# Altium footprint library Altium_Opto.PcbLib: 3 footprints
Each footprint in its own frame and in the unit in brackets; x right, y up, seen from the top. Pads: shape width x height; smd on the part's side, far side on the other; paste and mask are expansions set on the pad; w line width, h text height; cw(c..) or ccw(c..) is an arc to the next point about the centre after c.
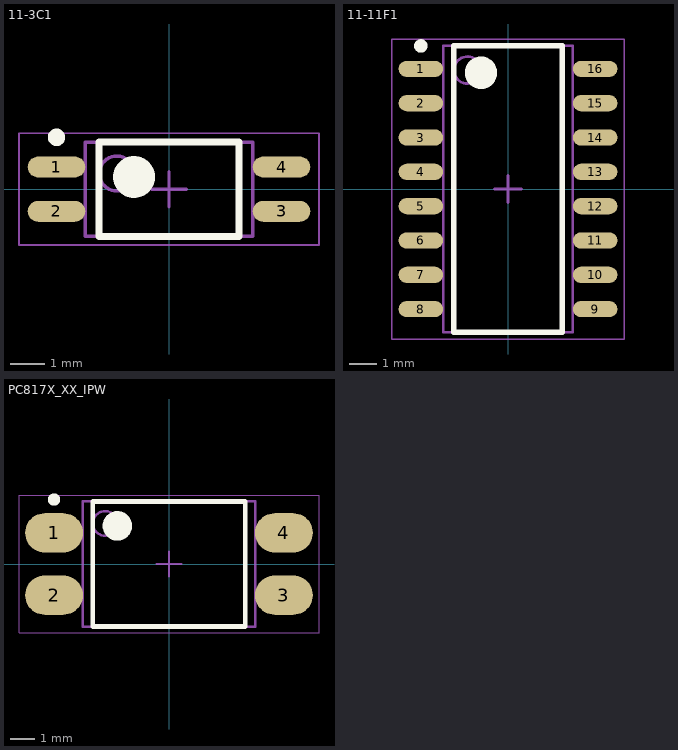
[diagram p0: the footprints below, top view; thin cyan lines are the x and y axes]

## 11-3C1 [mm] "SOIC, 4-Leads, Body 2.60x4.60mm, Pitch 1.27mm, IPC Medium Density"
height 2.2
pads (4):
  oval 1.65x0.6 smd: 1(-3.225,0.635) 2(-3.225,-0.635) 3(3.225,-0.635) 4(3.225,0.635)
Top Overlay:
  circle w0.6: c-1,0.35 r0.3
  circle w0.25: c-3.225,1.485 r0.125
  lines w0.2: -2,-1.35 2,-1.35 2,1.35 -2,1.35 -2,-1.35
Top Designator:
  text ".Designator" at -5.998,-0.4 h1.2
Mechanical 13:
  circle w0.1: c-1.5,0.45 r0.5
  lines w0.1: -2.4,-1.35 2.4,-1.35 2.4,1.35 -2.4,1.35 -2.4,-1.35
Mechanical 15:
  lines w0.05: -4.3,-1.6 4.3,-1.6 4.3,1.6 -4.3,1.6 -4.3,-1.6
  lines w0.1: -0.5,0 0.5,0 ; 0,-0.5 0,0.5
3D body "SOIC127P700X220-4N.step": height 2.2, standoff 0, extent -3.5,-1.35 3.5,1.35

## 11-11F1 [mm] "SOIC, 16-Leads, Body 10.35x4.55mm, Pitch 1.27mm, IPC Medium Density"
height 2.2
pads (16):
  oval 1.65x0.6 smd: 1(-3.225,4.445) 2(-3.225,3.175) 3(-3.225,1.905) 4(-3.225,0.635) 5(-3.225,-0.635) 6(-3.225,-1.905) 7(-3.225,-3.175) 8(-3.225,-4.445) 9(3.225,-4.445) 10(3.225,-3.175) 11(3.225,-1.905) 12(3.225,-0.635) 13(3.225,0.635) 14(3.225,1.905) 15(3.225,3.175) 16(3.225,4.445)
Top Overlay:
  circle w0.6: c-1,4.3 r0.3
  circle w0.25: c-3.225,5.295 r0.125
  lines w0.2: -2,-5.3 2,-5.3 2,5.3 -2,5.3 -2,-5.3
Mechanical 13:
  circle w0.1: c-1.5,4.4 r0.5
  lines w0.1: -2.4,-5.3 2.4,-5.3 2.4,5.3 -2.4,5.3 -2.4,-5.3
Mechanical 15:
  lines w0.05: -4.3,-5.55 4.3,-5.55 4.3,5.55 -4.3,5.55 -4.3,-5.55
  lines w0.1: -0.5,0 0.5,0 ; 0,-0.5 0,0.5
3D body "SOIC127P700X220-16N.step": height 2.2, standoff 0, extent -3.5,-5.3 3.5,5.3

## PC817X_XX_IPW [mm] "SOP, 4-Leads, Body 4.58x6.50mm, Pitch 2.54mm, IPC Medium Density"
height 4
pads (4):
  oval 2.35x1.6 smd: 1(-4.675,1.27) 2(-4.675,-1.27) 3(4.675,-1.27) 4(4.675,1.27)
Top Overlay:
  circle w0.6: c-2.1,1.55 r0.3
  circle w0.25: c-4.675,2.62 r0.125
  lines w0.2: -3.1,-2.55 3.1,-2.55 3.1,2.55 -3.1,2.55 -3.1,-2.55
Mechanical 13:
  circle w0.1: c-2.6,1.65 r0.5
  lines w0.1: -3.5,-2.55 3.5,-2.55 3.5,2.55 -3.5,2.55 -3.5,-2.55
Mechanical 15:
  lines w0.05: -6.1,-2.8 6.1,-2.8 6.1,2.8 -6.1,2.8 -6.1,-2.8
  lines w0.1: -0.5,0 0.5,0 ; 0,-0.5 0,0.5
3D body "SOP254P1050X400-4N.step": height 4, standoff 0, extent -5.25,-2.55 5.25,2.55